# Altium schematic symbol library BD6221F.SchLib: 1 symbol
Pins are listed as number, name and electrical type; pins without a type are passive.

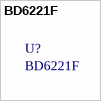
[diagram p0: symbol BD6221F]

## BD6221F
designator U?
IC, H BRIDGE DRIVER, 18V, 1A, SOP8; MPN: BD6221F-E2; Manufacturer: ROHM; Farnell: 1716261RL